# EAGLE library part SN65HVD3080 (library My Library-adm)
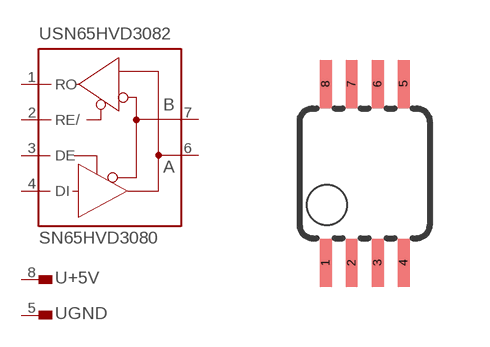
[diagram p14: symbol with the pads of MSOP08; footprint MSOP08]

Designator prefix -; gates SN65HVD3082=SN65HVD3080 +5V=PIN GND=PIN

## SN65HVD3080  [MSOP08]
1  SN65HVD3082:RO  out
2  SN65HVD3082:RE/  in
3  SN65HVD3082:DE  in
4  SN65HVD3082:DI  in
5  GND:1  pas
6  SN65HVD3082:A  pas
7  SN65HVD3082:B  pas
8  +5V:1  pas

## Footprint MSOP08 (pad centres in mm)
Mini Small Outline Package
smd 0.3 x 1.2: 1 -0.976,-2.24; 2 -0.326,-2.24; 3 0.324,-2.24; 4 0.974,-2.24; 5 0.974,2.239; 6 0.324,2.239; 7 -0.326,2.239; 8 -0.976,2.239